# Altium integrated library Linear Technology Power Management Supercapacitor Chargers.IntLib: 96 symbols (part 7 of 8)
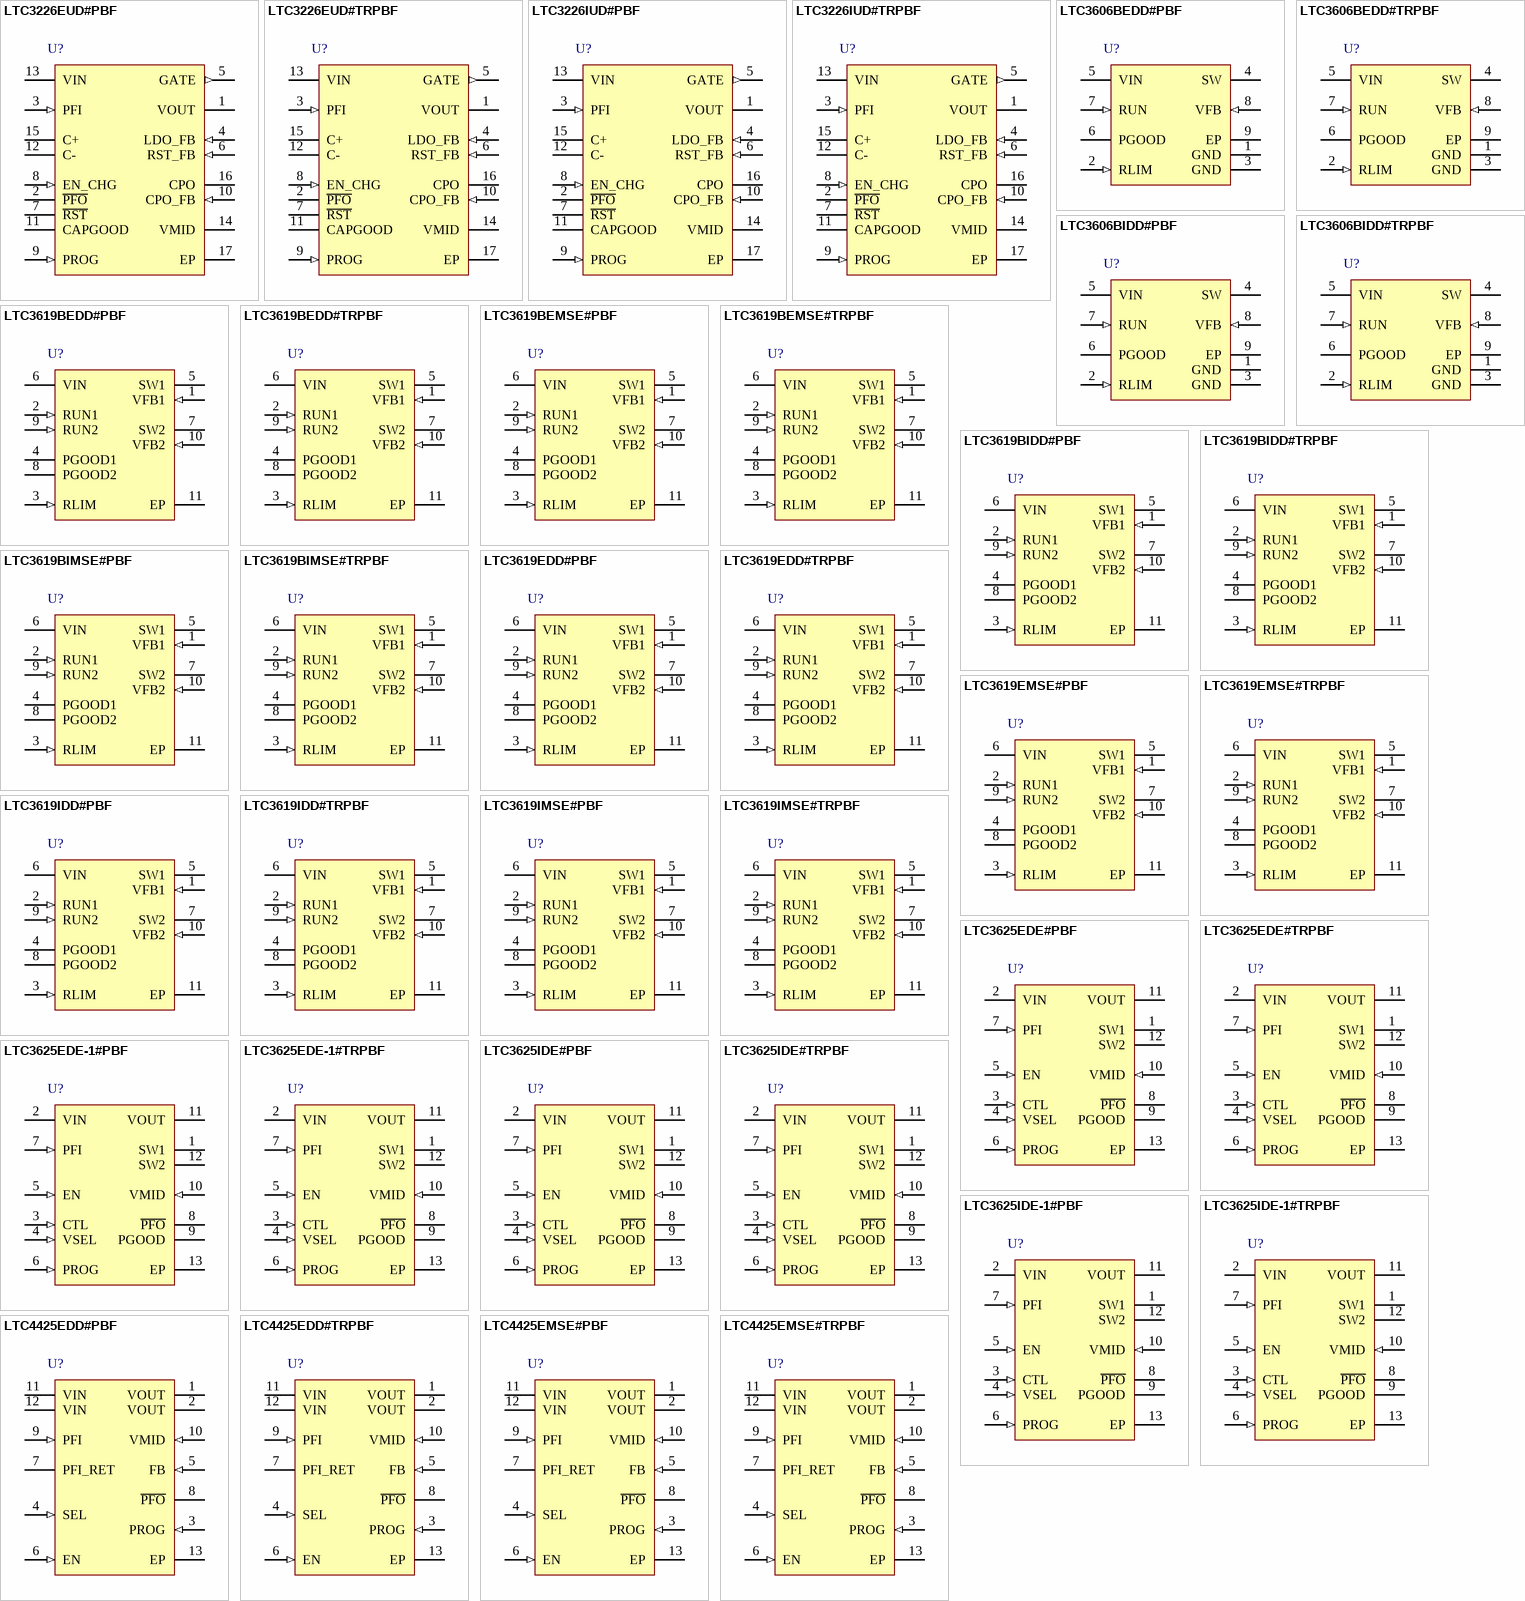
[diagram p9: symbols LTC3226EUD#PBF to LTC4425EMSE#TRPBF]

## LTC3625EDE#TRPBF
designator U?
1 A High Efficiency 2-Cell Supercapacitor Charger with Automatic Cell Balancing, 2.7 to 5.5 V Vin, 12-pin SON (DE-12), -40 to 125 degC, Pb-Free, Tape and Reel; Manufacturer: Linear Technology; PartNumber: LTC3625EDE#TRPBF; Output Current(A): 1; Topology: Buck, Boost; PackageVersion: Rev. D, 06/2010; PackageReference: DE-12; PackageDescription: 12-Pin Plastic DFN, Body 4 x 3 mm, Pitch 0.5 mm; Supplier 1: Digi-Key; Supplier Part Number 1: LTC3625EDE#TRPBF-ND; Packing: Tape and Reel; RoHS: TRUE; Mounting Technology: Surface Mount; Code_JEDEC: MO-229; ComponentLink1Description: Manufacturer URL; ComponentLink1URL: http://www.linear.com/; ComponentLink2Description: Datasheet; ComponentLink2URL: http://cds.linear.com/docs/en/datasheet/3625f.pdf; ComponentLink3Description: Package Specification; ComponentLink3URL: http://cds.linear.com/docs/en/packaging/DFN_12_05-08-1695.pdf
footprint LT-DE-12-05-08-1695_V (SON, 12-Leads, Body 4x3mm, Pitch 0.5mm, Thermal Pad 3.3x1.7mm)
pins: 1 SW1 "Switch Pin for the Buck Regulator. External inductor connects between SW1 pin and VMID.", 2 VIN (power) "Input Voltage Pin. Bypass to GND with a 10uF or larger ceramic capacitor", 3 CTL (in) "Logic Input. CTL sets the charge mode of the LTC3625/LTC3625-1. A logic high at CTL programs the part to operate with a single inductor; a logic low programs the part to operate with two inductors. In the 2-inductor (See Datasheet)", 4 VSEL (in) "Logic Input. VSEL selects the output voltage of the LTC3625/LTC3625-1. A logic low at VSEL sets the per-cell maximum voltage to 2.45V/2.05V (VOUT = 4.8V/4.0V); a logic high sets the per-cell maximum voltage to 2.70V/2.30V (See Datasheet)", 5 EN (in) "Logic Input. Enables the LTC3625/LTC3625-1. Active high. Has a 4.5Mohm internal pull-down resistor.", 6 PROG (in) "Charge Current Program Pin. Connecting a resistor from PROG to ground programs the buck output current. This pin servos to 1.2V.", 7 PFI (in) "Input to the Power Fail Comparator. This pin connects to an external resistor divider between VIN and GND. If this functionality is not desired, PFI should be tied to VIN", 8 ~{PFO} (hiz) "Open-Drain Output of the Power-Fail Comparator. The part pulls this pin low if VIN is less than a value programmed by an external divider. This pin is active low in shutdown mode. If this functionality is not desired P\F\O\ (See Datasheet)", 9 PGOOD (hiz) "Logic Output. This is an open-drain output which indicates that VOUT has settled to its final value. Upon start-up, this pin remains low until the output voltage, VOUT , is within 92.5% (typical) of its final value. Once (See Datasheet)", 10 VMID (in) "Midpoint of Two Series Supercapacitors. The pin voltage is monitored and used, along with VOUT , to enable or shut down the buck and boost converters during charging to achieve voltage balancing of the top and bottom (See Datasheet)", 11 VOUT (power) "Output Voltage Pin. Connect VOUT to the positive terminal of the top supercapacitor. The pin voltage is monitored and used, along with VMID, to enable or shut down the buck and boost converters during charging to achieve (See Datasheet)", 12 SW2 "Switch Pin for the Boost Regulator. External inductor connects between the SW2 pin and VMID. If CTL is logic high, then SW2 must be connected to SW1.", 13 EP (power) "Ground. The exposed pad must be connected to a continuous ground plane on the printed circuit board directly under the LTC3625/ LTC3625-1 for electrical contact and to achieve rated thermal performance."

## LTC3625EDE-1#PBF
designator U?
1 A High Efficiency 2-Cell Supercapacitor Charger with Automatic Cell Balancing, 2.7 to 5.5 V Vin, 12-pin SON (DE-12), -40 to 125 degC, Pb-Free; Manufacturer: Linear Technology; PartNumber: LTC3625EDE-1#PBF; Output Current(A): 1; Topology: Buck, Boost; PackageVersion: Rev. D, 06/2010; PackageReference: DE-12; PackageDescription: 12-Pin Plastic DFN, Body 4 x 3 mm, Pitch 0.5 mm; Supplier 1: Digi-Key; Supplier Part Number 1: LTC3625EDE-1#PBF-ND; Supplier 2: Newark; Supplier Part Number 2: 84R4968; RoHS: TRUE; Mounting Technology: Surface Mount; Code_JEDEC: MO-229; ComponentLink1Description: Manufacturer URL; ComponentLink1URL: http://www.linear.com/; ComponentLink2Description: Datasheet; ComponentLink2URL: http://cds.linear.com/docs/en/datasheet/3625f.pdf; ComponentLink3Description: Package Specification; ComponentLink3URL: http://cds.linear.com/docs/en/packaging/DFN_12_05-08-1695.pdf
footprint LT-DE-12-05-08-1695_V (SON, 12-Leads, Body 4x3mm, Pitch 0.5mm, Thermal Pad 3.3x1.7mm)
pins: 1 SW1 "Switch Pin for the Buck Regulator. External inductor connects between SW1 pin and VMID.", 2 VIN (power) "Input Voltage Pin. Bypass to GND with a 10uF or larger ceramic capacitor", 3 CTL (in) "Logic Input. CTL sets the charge mode of the LTC3625/LTC3625-1. A logic high at CTL programs the part to operate with a single inductor; a logic low programs the part to operate with two inductors. In the 2-inductor (See Datasheet)", 4 VSEL (in) "Logic Input. VSEL selects the output voltage of the LTC3625/LTC3625-1. A logic low at VSEL sets the per-cell maximum voltage to 2.45V/2.05V (VOUT = 4.8V/4.0V); a logic high sets the per-cell maximum voltage to 2.70V/2.30V (See Datasheet)", 5 EN (in) "Logic Input. Enables the LTC3625/LTC3625-1. Active high. Has a 4.5Mohm internal pull-down resistor.", 6 PROG (in) "Charge Current Program Pin. Connecting a resistor from PROG to ground programs the buck output current. This pin servos to 1.2V.", 7 PFI (in) "Input to the Power Fail Comparator. This pin connects to an external resistor divider between VIN and GND. If this functionality is not desired, PFI should be tied to VIN", 8 ~{PFO} (hiz) "Open-Drain Output of the Power-Fail Comparator. The part pulls this pin low if VIN is less than a value programmed by an external divider. This pin is active low in shutdown mode. If this functionality is not desired P\F\O\ (See Datasheet)", 9 PGOOD (hiz) "Logic Output. This is an open-drain output which indicates that VOUT has settled to its final value. Upon start-up, this pin remains low until the output voltage, VOUT , is within 92.5% (typical) of its final value. Once (See Datasheet)", 10 VMID (in) "Midpoint of Two Series Supercapacitors. The pin voltage is monitored and used, along with VOUT , to enable or shut down the buck and boost converters during charging to achieve voltage balancing of the top and bottom (See Datasheet)", 11 VOUT (power) "Output Voltage Pin. Connect VOUT to the positive terminal of the top supercapacitor. The pin voltage is monitored and used, along with VMID, to enable or shut down the buck and boost converters during charging to achieve (See Datasheet)", 12 SW2 "Switch Pin for the Boost Regulator. External inductor connects between the SW2 pin and VMID. If CTL is logic high, then SW2 must be connected to SW1.", 13 EP (power) "Ground. The exposed pad must be connected to a continuous ground plane on the printed circuit board directly under the LTC3625/ LTC3625-1 for electrical contact and to achieve rated thermal performance."

## LTC3625EDE-1#TRPBF
designator U?
1 A High Efficiency 2-Cell Supercapacitor Charger with Automatic Cell Balancing, 2.7 to 5.5 V Vin, 12-pin SON (DE-12), -40 to 125 degC, Pb-Free, Tape and Reel; Manufacturer: Linear Technology; PartNumber: LTC3625EDE-1#TRPBF; Output Current(A): 1; Topology: Buck, Boost; PackageVersion: Rev. D, 06/2010; PackageReference: DE-12; PackageDescription: 12-Pin Plastic DFN, Body 4 x 3 mm, Pitch 0.5 mm; Supplier 1: Digi-Key; Supplier Part Number 1: LTC3625EDE-1#TRPBF-ND; Supplier 2: Newark; Supplier Part Number 2: 84R4969; Packing: Tape and Reel; RoHS: TRUE; Mounting Technology: Surface Mount; Code_JEDEC: MO-229; ComponentLink1Description: Manufacturer URL; ComponentLink1URL: http://www.linear.com/; ComponentLink2Description: Datasheet; ComponentLink2URL: http://cds.linear.com/docs/en/datasheet/3625f.pdf; ComponentLink3Description: Package Specification; ComponentLink3URL: http://cds.linear.com/docs/en/packaging/DFN_12_05-08-1695.pdf
footprint LT-DE-12-05-08-1695_V (SON, 12-Leads, Body 4x3mm, Pitch 0.5mm, Thermal Pad 3.3x1.7mm)
pins: 1 SW1 "Switch Pin for the Buck Regulator. External inductor connects between SW1 pin and VMID.", 2 VIN (power) "Input Voltage Pin. Bypass to GND with a 10uF or larger ceramic capacitor", 3 CTL (in) "Logic Input. CTL sets the charge mode of the LTC3625/LTC3625-1. A logic high at CTL programs the part to operate with a single inductor; a logic low programs the part to operate with two inductors. In the 2-inductor (See Datasheet)", 4 VSEL (in) "Logic Input. VSEL selects the output voltage of the LTC3625/LTC3625-1. A logic low at VSEL sets the per-cell maximum voltage to 2.45V/2.05V (VOUT = 4.8V/4.0V); a logic high sets the per-cell maximum voltage to 2.70V/2.30V (See Datasheet)", 5 EN (in) "Logic Input. Enables the LTC3625/LTC3625-1. Active high. Has a 4.5Mohm internal pull-down resistor.", 6 PROG (in) "Charge Current Program Pin. Connecting a resistor from PROG to ground programs the buck output current. This pin servos to 1.2V.", 7 PFI (in) "Input to the Power Fail Comparator. This pin connects to an external resistor divider between VIN and GND. If this functionality is not desired, PFI should be tied to VIN", 8 ~{PFO} (hiz) "Open-Drain Output of the Power-Fail Comparator. The part pulls this pin low if VIN is less than a value programmed by an external divider. This pin is active low in shutdown mode. If this functionality is not desired P\F\O\ (See Datasheet)", 9 PGOOD (hiz) "Logic Output. This is an open-drain output which indicates that VOUT has settled to its final value. Upon start-up, this pin remains low until the output voltage, VOUT , is within 92.5% (typical) of its final value. Once (See Datasheet)", 10 VMID (in) "Midpoint of Two Series Supercapacitors. The pin voltage is monitored and used, along with VOUT , to enable or shut down the buck and boost converters during charging to achieve voltage balancing of the top and bottom (See Datasheet)", 11 VOUT (power) "Output Voltage Pin. Connect VOUT to the positive terminal of the top supercapacitor. The pin voltage is monitored and used, along with VMID, to enable or shut down the buck and boost converters during charging to achieve (See Datasheet)", 12 SW2 "Switch Pin for the Boost Regulator. External inductor connects between the SW2 pin and VMID. If CTL is logic high, then SW2 must be connected to SW1.", 13 EP (power) "Ground. The exposed pad must be connected to a continuous ground plane on the printed circuit board directly under the LTC3625/ LTC3625-1 for electrical contact and to achieve rated thermal performance."

## LTC3625IDE#PBF
designator U?
1 A High Efficiency 2-Cell Supercapacitor Charger with Automatic Cell Balancing, 2.7 to 5.5 V Vin, 12-pin SON (DE-12), -40 to 125 degC, Pb-Free; Manufacturer: Linear Technology; PartNumber: LTC3625IDE#PBF; Output Current(A): 1; Topology: Buck, Boost; PackageVersion: Rev. D, 06/2010; PackageReference: DE-12; PackageDescription: 12-Pin Plastic DFN, Body 4 x 3 mm, Pitch 0.5 mm; Supplier 1: Digi-Key; Supplier Part Number 1: LTC3625IDE#PBF-ND; Supplier 2: Newark; Supplier Part Number 2: 84R4974; RoHS: TRUE; Mounting Technology: Surface Mount; Code_JEDEC: MO-229; ComponentLink1Description: Manufacturer URL; ComponentLink1URL: http://www.linear.com/; ComponentLink2Description: Datasheet; ComponentLink2URL: http://cds.linear.com/docs/en/datasheet/3625f.pdf; ComponentLink3Description: Package Specification; ComponentLink3URL: http://cds.linear.com/docs/en/packaging/DFN_12_05-08-1695.pdf
footprint LT-DE-12-05-08-1695_V (SON, 12-Leads, Body 4x3mm, Pitch 0.5mm, Thermal Pad 3.3x1.7mm)
pins: 1 SW1 "Switch Pin for the Buck Regulator. External inductor connects between SW1 pin and VMID.", 2 VIN (power) "Input Voltage Pin. Bypass to GND with a 10uF or larger ceramic capacitor", 3 CTL (in) "Logic Input. CTL sets the charge mode of the LTC3625/LTC3625-1. A logic high at CTL programs the part to operate with a single inductor; a logic low programs the part to operate with two inductors. In the 2-inductor (See Datasheet)", 4 VSEL (in) "Logic Input. VSEL selects the output voltage of the LTC3625/LTC3625-1. A logic low at VSEL sets the per-cell maximum voltage to 2.45V/2.05V (VOUT = 4.8V/4.0V); a logic high sets the per-cell maximum voltage to 2.70V/2.30V (See Datasheet)", 5 EN (in) "Logic Input. Enables the LTC3625/LTC3625-1. Active high. Has a 4.5Mohm internal pull-down resistor.", 6 PROG (in) "Charge Current Program Pin. Connecting a resistor from PROG to ground programs the buck output current. This pin servos to 1.2V.", 7 PFI (in) "Input to the Power Fail Comparator. This pin connects to an external resistor divider between VIN and GND. If this functionality is not desired, PFI should be tied to VIN", 8 ~{PFO} (hiz) "Open-Drain Output of the Power-Fail Comparator. The part pulls this pin low if VIN is less than a value programmed by an external divider. This pin is active low in shutdown mode. If this functionality is not desired P\F\O\ (See Datasheet)", 9 PGOOD (hiz) "Logic Output. This is an open-drain output which indicates that VOUT has settled to its final value. Upon start-up, this pin remains low until the output voltage, VOUT , is within 92.5% (typical) of its final value. Once (See Datasheet)", 10 VMID (in) "Midpoint of Two Series Supercapacitors. The pin voltage is monitored and used, along with VOUT , to enable or shut down the buck and boost converters during charging to achieve voltage balancing of the top and bottom (See Datasheet)", 11 VOUT (power) "Output Voltage Pin. Connect VOUT to the positive terminal of the top supercapacitor. The pin voltage is monitored and used, along with VMID, to enable or shut down the buck and boost converters during charging to achieve (See Datasheet)", 12 SW2 "Switch Pin for the Boost Regulator. External inductor connects between the SW2 pin and VMID. If CTL is logic high, then SW2 must be connected to SW1.", 13 EP (power) "Ground. The exposed pad must be connected to a continuous ground plane on the printed circuit board directly under the LTC3625/ LTC3625-1 for electrical contact and to achieve rated thermal performance."

## LTC3625IDE#TRPBF
designator U?
1 A High Efficiency 2-Cell Supercapacitor Charger with Automatic Cell Balancing, 2.7 to 5.5 V Vin, 12-pin SON (DE-12), -40 to 125 degC, Pb-Free, Tape and Reel; Manufacturer: Linear Technology; PartNumber: LTC3625IDE#TRPBF; Output Current(A): 1; Topology: Buck, Boost; PackageVersion: Rev. D, 06/2010; PackageReference: DE-12; PackageDescription: 12-Pin Plastic DFN, Body 4 x 3 mm, Pitch 0.5 mm; Supplier 1: Digi-Key; Supplier Part Number 1: LTC3625IDE#TRPBF-ND; Packing: Tape and Reel; RoHS: TRUE; Mounting Technology: Surface Mount; Code_JEDEC: MO-229; ComponentLink1Description: Manufacturer URL; ComponentLink1URL: http://www.linear.com/; ComponentLink2Description: Datasheet; ComponentLink2URL: http://cds.linear.com/docs/en/datasheet/3625f.pdf; ComponentLink3Description: Package Specification; ComponentLink3URL: http://cds.linear.com/docs/en/packaging/DFN_12_05-08-1695.pdf
footprint LT-DE-12-05-08-1695_V (SON, 12-Leads, Body 4x3mm, Pitch 0.5mm, Thermal Pad 3.3x1.7mm)
pins: 1 SW1 "Switch Pin for the Buck Regulator. External inductor connects between SW1 pin and VMID.", 2 VIN (power) "Input Voltage Pin. Bypass to GND with a 10uF or larger ceramic capacitor", 3 CTL (in) "Logic Input. CTL sets the charge mode of the LTC3625/LTC3625-1. A logic high at CTL programs the part to operate with a single inductor; a logic low programs the part to operate with two inductors. In the 2-inductor (See Datasheet)", 4 VSEL (in) "Logic Input. VSEL selects the output voltage of the LTC3625/LTC3625-1. A logic low at VSEL sets the per-cell maximum voltage to 2.45V/2.05V (VOUT = 4.8V/4.0V); a logic high sets the per-cell maximum voltage to 2.70V/2.30V (See Datasheet)", 5 EN (in) "Logic Input. Enables the LTC3625/LTC3625-1. Active high. Has a 4.5Mohm internal pull-down resistor.", 6 PROG (in) "Charge Current Program Pin. Connecting a resistor from PROG to ground programs the buck output current. This pin servos to 1.2V.", 7 PFI (in) "Input to the Power Fail Comparator. This pin connects to an external resistor divider between VIN and GND. If this functionality is not desired, PFI should be tied to VIN", 8 ~{PFO} (hiz) "Open-Drain Output of the Power-Fail Comparator. The part pulls this pin low if VIN is less than a value programmed by an external divider. This pin is active low in shutdown mode. If this functionality is not desired P\F\O\ (See Datasheet)", 9 PGOOD (hiz) "Logic Output. This is an open-drain output which indicates that VOUT has settled to its final value. Upon start-up, this pin remains low until the output voltage, VOUT , is within 92.5% (typical) of its final value. Once (See Datasheet)", 10 VMID (in) "Midpoint of Two Series Supercapacitors. The pin voltage is monitored and used, along with VOUT , to enable or shut down the buck and boost converters during charging to achieve voltage balancing of the top and bottom (See Datasheet)", 11 VOUT (power) "Output Voltage Pin. Connect VOUT to the positive terminal of the top supercapacitor. The pin voltage is monitored and used, along with VMID, to enable or shut down the buck and boost converters during charging to achieve (See Datasheet)", 12 SW2 "Switch Pin for the Boost Regulator. External inductor connects between the SW2 pin and VMID. If CTL is logic high, then SW2 must be connected to SW1.", 13 EP (power) "Ground. The exposed pad must be connected to a continuous ground plane on the printed circuit board directly under the LTC3625/ LTC3625-1 for electrical contact and to achieve rated thermal performance."

## LTC3625IDE-1#PBF
designator U?
1 A High Efficiency 2-Cell Supercapacitor Charger with Automatic Cell Balancing, 2.7 to 5.5 V Vin, 12-pin SON (DE-12), -40 to 125 degC, Pb-Free; Manufacturer: Linear Technology; PartNumber: LTC3625IDE-1#PBF; Output Current(A): 1; Topology: Buck, Boost; PackageVersion: Rev. D, 06/2010; PackageReference: DE-12; PackageDescription: 12-Pin Plastic DFN, Body 4 x 3 mm, Pitch 0.5 mm; Supplier 1: Digi-Key; Supplier Part Number 1: LTC3625IDE-1#PBF-ND; RoHS: TRUE; Mounting Technology: Surface Mount; Code_JEDEC: MO-229; ComponentLink1Description: Manufacturer URL; ComponentLink1URL: http://www.linear.com/; ComponentLink2Description: Datasheet; ComponentLink2URL: http://cds.linear.com/docs/en/datasheet/3625f.pdf; ComponentLink3Description: Package Specification; ComponentLink3URL: http://cds.linear.com/docs/en/packaging/DFN_12_05-08-1695.pdf
footprint LT-DE-12-05-08-1695_V (SON, 12-Leads, Body 4x3mm, Pitch 0.5mm, Thermal Pad 3.3x1.7mm)
pins: 1 SW1 "Switch Pin for the Buck Regulator. External inductor connects between SW1 pin and VMID.", 2 VIN (power) "Input Voltage Pin. Bypass to GND with a 10uF or larger ceramic capacitor", 3 CTL (in) "Logic Input. CTL sets the charge mode of the LTC3625/LTC3625-1. A logic high at CTL programs the part to operate with a single inductor; a logic low programs the part to operate with two inductors. In the 2-inductor (See Datasheet)", 4 VSEL (in) "Logic Input. VSEL selects the output voltage of the LTC3625/LTC3625-1. A logic low at VSEL sets the per-cell maximum voltage to 2.45V/2.05V (VOUT = 4.8V/4.0V); a logic high sets the per-cell maximum voltage to 2.70V/2.30V (See Datasheet)", 5 EN (in) "Logic Input. Enables the LTC3625/LTC3625-1. Active high. Has a 4.5Mohm internal pull-down resistor.", 6 PROG (in) "Charge Current Program Pin. Connecting a resistor from PROG to ground programs the buck output current. This pin servos to 1.2V.", 7 PFI (in) "Input to the Power Fail Comparator. This pin connects to an external resistor divider between VIN and GND. If this functionality is not desired, PFI should be tied to VIN", 8 ~{PFO} (hiz) "Open-Drain Output of the Power-Fail Comparator. The part pulls this pin low if VIN is less than a value programmed by an external divider. This pin is active low in shutdown mode. If this functionality is not desired P\F\O\ (See Datasheet)", 9 PGOOD (hiz) "Logic Output. This is an open-drain output which indicates that VOUT has settled to its final value. Upon start-up, this pin remains low until the output voltage, VOUT , is within 92.5% (typical) of its final value. Once (See Datasheet)", 10 VMID (in) "Midpoint of Two Series Supercapacitors. The pin voltage is monitored and used, along with VOUT , to enable or shut down the buck and boost converters during charging to achieve voltage balancing of the top and bottom (See Datasheet)", 11 VOUT (power) "Output Voltage Pin. Connect VOUT to the positive terminal of the top supercapacitor. The pin voltage is monitored and used, along with VMID, to enable or shut down the buck and boost converters during charging to achieve (See Datasheet)", 12 SW2 "Switch Pin for the Boost Regulator. External inductor connects between the SW2 pin and VMID. If CTL is logic high, then SW2 must be connected to SW1.", 13 EP (power) "Ground. The exposed pad must be connected to a continuous ground plane on the printed circuit board directly under the LTC3625/ LTC3625-1 for electrical contact and to achieve rated thermal performance."

## LTC3625IDE-1#TRPBF
designator U?
1 A High Efficiency 2-Cell Supercapacitor Charger with Automatic Cell Balancing, 2.7 to 5.5 V Vin, 12-pin SON (DE-12), -40 to 125 degC, Pb-Free, Tape and Reel; Manufacturer: Linear Technology; PartNumber: LTC3625IDE-1#TRPBF; Output Current(A): 1; Topology: Buck, Boost; PackageVersion: Rev. D, 06/2010; PackageReference: DE-12; PackageDescription: 12-Pin Plastic DFN, Body 4 x 3 mm, Pitch 0.5 mm; Supplier 1: Digi-Key; Supplier Part Number 1: LTC3625IDE-1#TRPBF-ND; Packing: Tape and Reel; RoHS: TRUE; Mounting Technology: Surface Mount; Code_JEDEC: MO-229; ComponentLink1Description: Manufacturer URL; ComponentLink1URL: http://www.linear.com/; ComponentLink2Description: Datasheet; ComponentLink2URL: http://cds.linear.com/docs/en/datasheet/3625f.pdf; ComponentLink3Description: Package Specification; ComponentLink3URL: http://cds.linear.com/docs/en/packaging/DFN_12_05-08-1695.pdf
footprint LT-DE-12-05-08-1695_V (SON, 12-Leads, Body 4x3mm, Pitch 0.5mm, Thermal Pad 3.3x1.7mm)
pins: 1 SW1 "Switch Pin for the Buck Regulator. External inductor connects between SW1 pin and VMID.", 2 VIN (power) "Input Voltage Pin. Bypass to GND with a 10uF or larger ceramic capacitor", 3 CTL (in) "Logic Input. CTL sets the charge mode of the LTC3625/LTC3625-1. A logic high at CTL programs the part to operate with a single inductor; a logic low programs the part to operate with two inductors. In the 2-inductor (See Datasheet)", 4 VSEL (in) "Logic Input. VSEL selects the output voltage of the LTC3625/LTC3625-1. A logic low at VSEL sets the per-cell maximum voltage to 2.45V/2.05V (VOUT = 4.8V/4.0V); a logic high sets the per-cell maximum voltage to 2.70V/2.30V (See Datasheet)", 5 EN (in) "Logic Input. Enables the LTC3625/LTC3625-1. Active high. Has a 4.5Mohm internal pull-down resistor.", 6 PROG (in) "Charge Current Program Pin. Connecting a resistor from PROG to ground programs the buck output current. This pin servos to 1.2V.", 7 PFI (in) "Input to the Power Fail Comparator. This pin connects to an external resistor divider between VIN and GND. If this functionality is not desired, PFI should be tied to VIN", 8 ~{PFO} (hiz) "Open-Drain Output of the Power-Fail Comparator. The part pulls this pin low if VIN is less than a value programmed by an external divider. This pin is active low in shutdown mode. If this functionality is not desired P\F\O\ (See Datasheet)", 9 PGOOD (hiz) "Logic Output. This is an open-drain output which indicates that VOUT has settled to its final value. Upon start-up, this pin remains low until the output voltage, VOUT , is within 92.5% (typical) of its final value. Once (See Datasheet)", 10 VMID (in) "Midpoint of Two Series Supercapacitors. The pin voltage is monitored and used, along with VOUT , to enable or shut down the buck and boost converters during charging to achieve voltage balancing of the top and bottom (See Datasheet)", 11 VOUT (power) "Output Voltage Pin. Connect VOUT to the positive terminal of the top supercapacitor. The pin voltage is monitored and used, along with VMID, to enable or shut down the buck and boost converters during charging to achieve (See Datasheet)", 12 SW2 "Switch Pin for the Boost Regulator. External inductor connects between the SW2 pin and VMID. If CTL is logic high, then SW2 must be connected to SW1.", 13 EP (power) "Ground. The exposed pad must be connected to a continuous ground plane on the printed circuit board directly under the LTC3625/ LTC3625-1 for electrical contact and to achieve rated thermal performance."

## LTC4425EDD#PBF
designator U?
Linear SuperCap Charger with Current-Limited Ideal Diode and V/I Monitor, 2.7 to 5.5 V Vin, 5.5 V Vout MAX, 12-pin SON (DD-12), -40 to 125 degC, Pb-Free; Manufacturer: Linear Technology; PartNumber: LTC4425EDD#PBF; PackageVersion: Rev. A, 06/2010; PackageReference: DD-12; PackageDescription: 12-Pin Plastic DFN, Body 3 x 3 mm, Pitch 0.45 mm; Supplier 1: Digi-Key; Supplier Part Number 1: LTC4425EDD#PBF-ND; Supplier 2: Newark; Supplier Part Number 2: 13T8420; RoHS: TRUE; Topology: Linear; Mounting Technology: Surface Mount; ComponentLink1Description: Manufacturer URL; ComponentLink1URL: http://www.linear.com/; ComponentLink2Description: Datasheet; ComponentLink2URL: http://cds.linear.com/docs/en/datasheet/4425f.pdf; ComponentLink3Description: Package Specification; ComponentLink3URL: http://cds.linear.com/docs/en/packaging/DFN_12_05-08-1725.pdf
footprint LT-DD-12_V (SON, 12-Leads, Body 3x3mm, Pitch 0.45mm, Thermal Pad 2.38x1.65mm)
pins: 1 VOUT (power) "Output Pin of the Charger. Typically connects to the top of the 2-cell supercap stack.", 2 VOUT (power) "Output Pin of the Charger. Typically connects to the top of the 2-cell supercap stack.", 3 PROG (in) "Charge Current Program and Charge Current Monitor Pin. A resistor connected from PROG to ground programs the charge current. In LDO mode, this pin always servos to 1V. However, if the charge current profile is turned on, (See Datasheet)", 4 SEL (in) "Logic Input to Select One of the Two Possible Clamp Voltages (VCLAMP). If the pin is a logic low, the maximum voltage across any supercap of the stack is 2.45V. If the pin is a logic high, it is 2.7V. Do not float this pin.", 5 FB (in) "In LDO mode, output voltage is programmed by a resistor divider from VOUT via the FB pin. In this mode, the voltage on this pin always servos to the internal reference voltage of 1.2V. If the FB pin is pulled up to VIN, the (See Datasheet)", 6 EN (in) "Digital Input to Enable the Charger. If this pin is a logic high, the part is enabled and it draws only 20uA of quiescent current from the input or output when idle. If this pin is a logic low, the part is in shutdown mode (See Datasheet)", 7 PFI_RET (oc) "This pin connects to the bottom of the external resistor divider for the input power-fail comparator. In shutdown mode, an internal switch opens up this path to reduce the current drawn by the resistor divider.", 8 ~{PFO} (hiz) "Open Drain Output of the Power-Fail Comparator. This pin is driven to logic low if at least one of the following conditions is true: (1) VIN is less than a value programmed by an external divider via PFI, (2) VOUT has not (See Datasheet)", 9 PFI (in) "Input to the Power-Fail Comparator. The input voltage below which P\F\O\ pin indicates a power-fail condition can be programmed by connecting this pin to an external resistor divider between VIN and PFI_RET pin.", 10 VMID (in) "Connects to the Midpoint of the 2-Cell supercap stack. An internal leakage balancing amplifier drives this pin to a voltage which is exactly half of VOUT.", 11 VIN (power) "Input Power Pin. Typically connected to a DC source like a Li-Ion/Polymer battery or a USB port. This pin should be bypassed with a low-ESR ceramic capacitor.", 12 VIN (power) "Input Power Pin. Typically connected to a DC source like a Li-Ion/Polymer battery or a USB port. This pin should be bypassed with a low-ESR ceramic capacitor.", 13 EP (power) "GND. The Exposed Pad should be connected to a continuous ground plane on the second layer of the printed circuit board by several vias directly under the part to achieve optimum thermal conduction."

## LTC4425EDD#TRPBF
designator U?
Linear SuperCap Charger with Current-Limited Ideal Diode and V/I Monitor, 2.7 to 5.5 V Vin, 5.5 V Vout MAX, 12-pin SON (DD-12), -40 to 125 degC, Pb-Free, Tape and Reel; Manufacturer: Linear Technology; PartNumber: LTC4425EDD#TRPBF; PackageVersion: Rev. A, 06/2010; PackageReference: DD-12; PackageDescription: 12-Pin Plastic DFN, Body 3 x 3 mm, Pitch 0.45 mm; Supplier 1: Digi-Key; Supplier Part Number 1: LTC4425EDD#TRPBF-ND; Supplier 2: Newark; Supplier Part Number 2: 13T8421; Packing: Tape and Reel; RoHS: TRUE; Topology: Linear; Mounting Technology: Surface Mount; ComponentLink1Description: Manufacturer URL; ComponentLink1URL: http://www.linear.com/; ComponentLink2Description: Datasheet; ComponentLink2URL: http://cds.linear.com/docs/en/datasheet/4425f.pdf; ComponentLink3Description: Package Specification; ComponentLink3URL: http://cds.linear.com/docs/en/packaging/DFN_12_05-08-1725.pdf
footprint LT-DD-12_V (SON, 12-Leads, Body 3x3mm, Pitch 0.45mm, Thermal Pad 2.38x1.65mm)
pins: 1 VOUT (power) "Output Pin of the Charger. Typically connects to the top of the 2-cell supercap stack.", 2 VOUT (power) "Output Pin of the Charger. Typically connects to the top of the 2-cell supercap stack.", 3 PROG (in) "Charge Current Program and Charge Current Monitor Pin. A resistor connected from PROG to ground programs the charge current. In LDO mode, this pin always servos to 1V. However, if the charge current profile is turned on, (See Datasheet)", 4 SEL (in) "Logic Input to Select One of the Two Possible Clamp Voltages (VCLAMP). If the pin is a logic low, the maximum voltage across any supercap of the stack is 2.45V. If the pin is a logic high, it is 2.7V. Do not float this pin.", 5 FB (in) "In LDO mode, output voltage is programmed by a resistor divider from VOUT via the FB pin. In this mode, the voltage on this pin always servos to the internal reference voltage of 1.2V. If the FB pin is pulled up to VIN, the (See Datasheet)", 6 EN (in) "Digital Input to Enable the Charger. If this pin is a logic high, the part is enabled and it draws only 20uA of quiescent current from the input or output when idle. If this pin is a logic low, the part is in shutdown mode (See Datasheet)", 7 PFI_RET (oc) "This pin connects to the bottom of the external resistor divider for the input power-fail comparator. In shutdown mode, an internal switch opens up this path to reduce the current drawn by the resistor divider.", 8 ~{PFO} (hiz) "Open Drain Output of the Power-Fail Comparator. This pin is driven to logic low if at least one of the following conditions is true: (1) VIN is less than a value programmed by an external divider via PFI, (2) VOUT has not (See Datasheet)", 9 PFI (in) "Input to the Power-Fail Comparator. The input voltage below which P\F\O\ pin indicates a power-fail condition can be programmed by connecting this pin to an external resistor divider between VIN and PFI_RET pin.", 10 VMID (in) "Connects to the Midpoint of the 2-Cell supercap stack. An internal leakage balancing amplifier drives this pin to a voltage which is exactly half of VOUT.", 11 VIN (power) "Input Power Pin. Typically connected to a DC source like a Li-Ion/Polymer battery or a USB port. This pin should be bypassed with a low-ESR ceramic capacitor.", 12 VIN (power) "Input Power Pin. Typically connected to a DC source like a Li-Ion/Polymer battery or a USB port. This pin should be bypassed with a low-ESR ceramic capacitor.", 13 EP (power) "GND. The Exposed Pad should be connected to a continuous ground plane on the second layer of the printed circuit board by several vias directly under the part to achieve optimum thermal conduction."

## LTC4425EMSE#PBF
designator U?
Linear SuperCap Charger with Current-Limited Ideal Diode and V/I Monitor, 2.7 to 5.5 V Vin, 5.5 V Vout MAX, 12-pin SOP (MSE-12-EDP), -40 to 125 degC, Pb-Free; Manufacturer: Linear Technology; PartNumber: LTC4425EMSE#PBF; PackageVersion: Rev. G, 05/2013; PackageReference: MSE-12-EDP; PackageDescription: 12-Pin Plastic MSOP, Exposed Die Pad, Body 4.039 x 3 mm, Pitch 0.65 mm; Supplier 1: Digi-Key; Supplier Part Number 1: LTC4425EMSE#PBF-ND; Supplier 2: Farnell; Supplier Part Number 2: 1839114; Supplier 3: Newark; Supplier Part Number 3: 13T8422; RoHS: TRUE; Topology: Linear; Mounting Technology: Surface Mount; ComponentLink1Description: Manufacturer URL; ComponentLink1URL: http://www.linear.com/; ComponentLink2Description: Datasheet; ComponentLink2URL: http://cds.linear.com/docs/en/datasheet/4425f.pdf; ComponentLink3Description: Package Specification; ComponentLink3URL: http://cds.linear.com/docs/en/packaging/05081666_G_MSE12.pdf
footprint LT-MSE-12-EDP_N (SOP, 12-Leads, Body 4.1x3.1mm, Pitch 0.65mm, Thermal Pad 2.95x1.76mm, IPC Medium Density)
footprint LT-MSE-12-EDP_L (SOP, 12-Leads, Body 4.1x3.1mm, Pitch 0.65mm, Thermal Pad 2.95x1.76mm, IPC High Density)
footprint LT-MSE-12-EDP_M (SOP, 12-Leads, Body 4.1x3.1mm, Pitch 0.65mm, Thermal Pad 2.95x1.76mm, IPC Low Density)
pins: 1 VOUT (power) "Output Pin of the Charger. Typically connects to the top of the 2-cell supercap stack.", 2 VOUT (power) "Output Pin of the Charger. Typically connects to the top of the 2-cell supercap stack.", 3 PROG (in) "Charge Current Program and Charge Current Monitor Pin. A resistor connected from PROG to ground programs the charge current. In LDO mode, this pin always servos to 1V. However, if the charge current profile is turned on, (See Datasheet)", 4 SEL (in) "Logic Input to Select One of the Two Possible Clamp Voltages (VCLAMP). If the pin is a logic low, the maximum voltage across any supercap of the stack is 2.45V. If the pin is a logic high, it is 2.7V. Do not float this pin.", 5 FB (in) "In LDO mode, output voltage is programmed by a resistor divider from VOUT via the FB pin. In this mode, the voltage on this pin always servos to the internal reference voltage of 1.2V. If the FB pin is pulled up to VIN, the (See Datasheet)", 6 EN (in) "Digital Input to Enable the Charger. If this pin is a logic high, the part is enabled and it draws only 20uA of quiescent current from the input or output when idle. If this pin is a logic low, the part is in shutdown mode (See Datasheet)", 7 PFI_RET (oc) "This pin connects to the bottom of the external resistor divider for the input power-fail comparator. In shutdown mode, an internal switch opens up this path to reduce the current drawn by the resistor divider.", 8 ~{PFO} (hiz) "Open Drain Output of the Power-Fail Comparator. This pin is driven to logic low if at least one of the following conditions is true: (1) VIN is less than a value programmed by an external divider via PFI, (2) VOUT has not (See Datasheet)", 9 PFI (in) "Input to the Power-Fail Comparator. The input voltage below which P\F\O\ pin indicates a power-fail condition can be programmed by connecting this pin to an external resistor divider between VIN and PFI_RET pin.", 10 VMID (in) "Connects to the Midpoint of the 2-Cell supercap stack. An internal leakage balancing amplifier drives this pin to a voltage which is exactly half of VOUT.", 11 VIN (power) "Input Power Pin. Typically connected to a DC source like a Li-Ion/Polymer battery or a USB port. This pin should be bypassed with a low-ESR ceramic capacitor.", 12 VIN (power) "Input Power Pin. Typically connected to a DC source like a Li-Ion/Polymer battery or a USB port. This pin should be bypassed with a low-ESR ceramic capacitor.", 13 EP (power) "GND. The Exposed Pad should be connected to a continuous ground plane on the second layer of the printed circuit board by several vias directly under the part to achieve optimum thermal conduction."

## LTC4425EMSE#TRPBF
designator U?
Linear SuperCap Charger with Current-Limited Ideal Diode and V/I Monitor, 2.7 to 5.5 V Vin, 5.5 V Vout MAX, 12-pin SOP (MSE-12-EDP), -40 to 125 degC, Pb-Free, Tape and Reel; Manufacturer: Linear Technology; PartNumber: LTC4425EMSE#TRPBF; PackageVersion: Rev. G, 05/2013; PackageReference: MSE-12-EDP; PackageDescription: 12-Pin Plastic MSOP, Exposed Die Pad, Body 4.039 x 3 mm, Pitch 0.65 mm; Supplier 1: Digi-Key; Supplier Part Number 1: LTC4425EMSE#TRPBF-ND; Packing: Tape and Reel; RoHS: TRUE; Topology: Linear; Mounting Technology: Surface Mount; ComponentLink1Description: Manufacturer URL; ComponentLink1URL: http://www.linear.com/; ComponentLink2Description: Datasheet; ComponentLink2URL: http://cds.linear.com/docs/en/datasheet/4425f.pdf; ComponentLink3Description: Package Specification; ComponentLink3URL: http://cds.linear.com/docs/en/packaging/05081666_G_MSE12.pdf
footprint LT-MSE-12-EDP_N (SOP, 12-Leads, Body 4.1x3.1mm, Pitch 0.65mm, Thermal Pad 2.95x1.76mm, IPC Medium Density)
footprint LT-MSE-12-EDP_L (SOP, 12-Leads, Body 4.1x3.1mm, Pitch 0.65mm, Thermal Pad 2.95x1.76mm, IPC High Density)
footprint LT-MSE-12-EDP_M (SOP, 12-Leads, Body 4.1x3.1mm, Pitch 0.65mm, Thermal Pad 2.95x1.76mm, IPC Low Density)
pins: 1 VOUT (power) "Output Pin of the Charger. Typically connects to the top of the 2-cell supercap stack.", 2 VOUT (power) "Output Pin of the Charger. Typically connects to the top of the 2-cell supercap stack.", 3 PROG (in) "Charge Current Program and Charge Current Monitor Pin. A resistor connected from PROG to ground programs the charge current. In LDO mode, this pin always servos to 1V. However, if the charge current profile is turned on, (See Datasheet)", 4 SEL (in) "Logic Input to Select One of the Two Possible Clamp Voltages (VCLAMP). If the pin is a logic low, the maximum voltage across any supercap of the stack is 2.45V. If the pin is a logic high, it is 2.7V. Do not float this pin.", 5 FB (in) "In LDO mode, output voltage is programmed by a resistor divider from VOUT via the FB pin. In this mode, the voltage on this pin always servos to the internal reference voltage of 1.2V. If the FB pin is pulled up to VIN, the (See Datasheet)", 6 EN (in) "Digital Input to Enable the Charger. If this pin is a logic high, the part is enabled and it draws only 20uA of quiescent current from the input or output when idle. If this pin is a logic low, the part is in shutdown mode (See Datasheet)", 7 PFI_RET (oc) "This pin connects to the bottom of the external resistor divider for the input power-fail comparator. In shutdown mode, an internal switch opens up this path to reduce the current drawn by the resistor divider.", 8 ~{PFO} (hiz) "Open Drain Output of the Power-Fail Comparator. This pin is driven to logic low if at least one of the following conditions is true: (1) VIN is less than a value programmed by an external divider via PFI, (2) VOUT has not (See Datasheet)", 9 PFI (in) "Input to the Power-Fail Comparator. The input voltage below which P\F\O\ pin indicates a power-fail condition can be programmed by connecting this pin to an external resistor divider between VIN and PFI_RET pin.", 10 VMID (in) "Connects to the Midpoint of the 2-Cell supercap stack. An internal leakage balancing amplifier drives this pin to a voltage which is exactly half of VOUT.", 11 VIN (power) "Input Power Pin. Typically connected to a DC source like a Li-Ion/Polymer battery or a USB port. This pin should be bypassed with a low-ESR ceramic capacitor.", 12 VIN (power) "Input Power Pin. Typically connected to a DC source like a Li-Ion/Polymer battery or a USB port. This pin should be bypassed with a low-ESR ceramic capacitor.", 13 EP (power) "GND. The Exposed Pad should be connected to a continuous ground plane on the second layer of the printed circuit board by several vias directly under the part to achieve optimum thermal conduction."

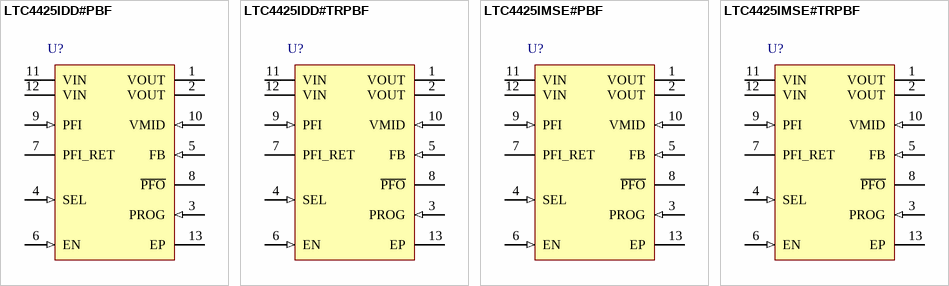
[diagram p3: symbols LTC4425IDD#PBF to LTC4425IMSE#TRPBF]

## LTC4425IDD#PBF
designator U?
Linear SuperCap Charger with Current-Limited Ideal Diode and V/I Monitor, 2.7 to 5.5 V Vin, 5.5 V Vout MAX, 12-pin SON (DD-12), -40 to 125 degC, Pb-Free; Manufacturer: Linear Technology; PartNumber: LTC4425IDD#PBF; PackageVersion: Rev. A, 06/2010; PackageReference: DD-12; PackageDescription: 12-Pin Plastic DFN, Body 3 x 3 mm, Pitch 0.45 mm; Supplier 1: Digi-Key; Supplier Part Number 1: LTC4425IDD#PBF-ND; Supplier 2: Newark; Supplier Part Number 2: 13T8424; RoHS: TRUE; Topology: Linear; Mounting Technology: Surface Mount; ComponentLink1Description: Manufacturer URL; ComponentLink1URL: http://www.linear.com/; ComponentLink2Description: Datasheet; ComponentLink2URL: http://cds.linear.com/docs/en/datasheet/4425f.pdf; ComponentLink3Description: Package Specification; ComponentLink3URL: http://cds.linear.com/docs/en/packaging/DFN_12_05-08-1725.pdf
footprint LT-DD-12_V (SON, 12-Leads, Body 3x3mm, Pitch 0.45mm, Thermal Pad 2.38x1.65mm)
pins: 1 VOUT (power) "Output Pin of the Charger. Typically connects to the top of the 2-cell supercap stack.", 2 VOUT (power) "Output Pin of the Charger. Typically connects to the top of the 2-cell supercap stack.", 3 PROG (in) "Charge Current Program and Charge Current Monitor Pin. A resistor connected from PROG to ground programs the charge current. In LDO mode, this pin always servos to 1V. However, if the charge current profile is turned on, (See Datasheet)", 4 SEL (in) "Logic Input to Select One of the Two Possible Clamp Voltages (VCLAMP). If the pin is a logic low, the maximum voltage across any supercap of the stack is 2.45V. If the pin is a logic high, it is 2.7V. Do not float this pin.", 5 FB (in) "In LDO mode, output voltage is programmed by a resistor divider from VOUT via the FB pin. In this mode, the voltage on this pin always servos to the internal reference voltage of 1.2V. If the FB pin is pulled up to VIN, the (See Datasheet)", 6 EN (in) "Digital Input to Enable the Charger. If this pin is a logic high, the part is enabled and it draws only 20uA of quiescent current from the input or output when idle. If this pin is a logic low, the part is in shutdown mode (See Datasheet)", 7 PFI_RET (oc) "This pin connects to the bottom of the external resistor divider for the input power-fail comparator. In shutdown mode, an internal switch opens up this path to reduce the current drawn by the resistor divider.", 8 ~{PFO} (hiz) "Open Drain Output of the Power-Fail Comparator. This pin is driven to logic low if at least one of the following conditions is true: (1) VIN is less than a value programmed by an external divider via PFI, (2) VOUT has not (See Datasheet)", 9 PFI (in) "Input to the Power-Fail Comparator. The input voltage below which P\F\O\ pin indicates a power-fail condition can be programmed by connecting this pin to an external resistor divider between VIN and PFI_RET pin.", 10 VMID (in) "Connects to the Midpoint of the 2-Cell supercap stack. An internal leakage balancing amplifier drives this pin to a voltage which is exactly half of VOUT.", 11 VIN (power) "Input Power Pin. Typically connected to a DC source like a Li-Ion/Polymer battery or a USB port. This pin should be bypassed with a low-ESR ceramic capacitor.", 12 VIN (power) "Input Power Pin. Typically connected to a DC source like a Li-Ion/Polymer battery or a USB port. This pin should be bypassed with a low-ESR ceramic capacitor.", 13 EP (power) "GND. The Exposed Pad should be connected to a continuous ground plane on the second layer of the printed circuit board by several vias directly under the part to achieve optimum thermal conduction."

## LTC4425IDD#TRPBF
designator U?
Linear SuperCap Charger with Current-Limited Ideal Diode and V/I Monitor, 2.7 to 5.5 V Vin, 5.5 V Vout MAX, 12-pin SON (DD-12), -40 to 125 degC, Pb-Free, Tape and Reel; Manufacturer: Linear Technology; PartNumber: LTC4425IDD#TRPBF; PackageVersion: Rev. A, 06/2010; PackageReference: DD-12; PackageDescription: 12-Pin Plastic DFN, Body 3 x 3 mm, Pitch 0.45 mm; Supplier 1: Digi-Key; Supplier Part Number 1: LTC4425IDD#TRPBF-ND; Supplier 2: Newark; Supplier Part Number 2: 13T8425; Packing: Tape and Reel; RoHS: TRUE; Topology: Linear; Mounting Technology: Surface Mount; ComponentLink1Description: Manufacturer URL; ComponentLink1URL: http://www.linear.com/; ComponentLink2Description: Datasheet; ComponentLink2URL: http://cds.linear.com/docs/en/datasheet/4425f.pdf; ComponentLink3Description: Package Specification; ComponentLink3URL: http://cds.linear.com/docs/en/packaging/DFN_12_05-08-1725.pdf
footprint LT-DD-12_V (SON, 12-Leads, Body 3x3mm, Pitch 0.45mm, Thermal Pad 2.38x1.65mm)
pins: 1 VOUT (power) "Output Pin of the Charger. Typically connects to the top of the 2-cell supercap stack.", 2 VOUT (power) "Output Pin of the Charger. Typically connects to the top of the 2-cell supercap stack.", 3 PROG (in) "Charge Current Program and Charge Current Monitor Pin. A resistor connected from PROG to ground programs the charge current. In LDO mode, this pin always servos to 1V. However, if the charge current profile is turned on, (See Datasheet)", 4 SEL (in) "Logic Input to Select One of the Two Possible Clamp Voltages (VCLAMP). If the pin is a logic low, the maximum voltage across any supercap of the stack is 2.45V. If the pin is a logic high, it is 2.7V. Do not float this pin.", 5 FB (in) "In LDO mode, output voltage is programmed by a resistor divider from VOUT via the FB pin. In this mode, the voltage on this pin always servos to the internal reference voltage of 1.2V. If the FB pin is pulled up to VIN, the (See Datasheet)", 6 EN (in) "Digital Input to Enable the Charger. If this pin is a logic high, the part is enabled and it draws only 20uA of quiescent current from the input or output when idle. If this pin is a logic low, the part is in shutdown mode (See Datasheet)", 7 PFI_RET (oc) "This pin connects to the bottom of the external resistor divider for the input power-fail comparator. In shutdown mode, an internal switch opens up this path to reduce the current drawn by the resistor divider.", 8 ~{PFO} (hiz) "Open Drain Output of the Power-Fail Comparator. This pin is driven to logic low if at least one of the following conditions is true: (1) VIN is less than a value programmed by an external divider via PFI, (2) VOUT has not (See Datasheet)", 9 PFI (in) "Input to the Power-Fail Comparator. The input voltage below which P\F\O\ pin indicates a power-fail condition can be programmed by connecting this pin to an external resistor divider between VIN and PFI_RET pin.", 10 VMID (in) "Connects to the Midpoint of the 2-Cell supercap stack. An internal leakage balancing amplifier drives this pin to a voltage which is exactly half of VOUT.", 11 VIN (power) "Input Power Pin. Typically connected to a DC source like a Li-Ion/Polymer battery or a USB port. This pin should be bypassed with a low-ESR ceramic capacitor.", 12 VIN (power) "Input Power Pin. Typically connected to a DC source like a Li-Ion/Polymer battery or a USB port. This pin should be bypassed with a low-ESR ceramic capacitor.", 13 EP (power) "GND. The Exposed Pad should be connected to a continuous ground plane on the second layer of the printed circuit board by several vias directly under the part to achieve optimum thermal conduction."